# Altium schematic symbol library Microchip Power Management Switching Regulator.SchLib: 304 symbols (part 2 of 8)
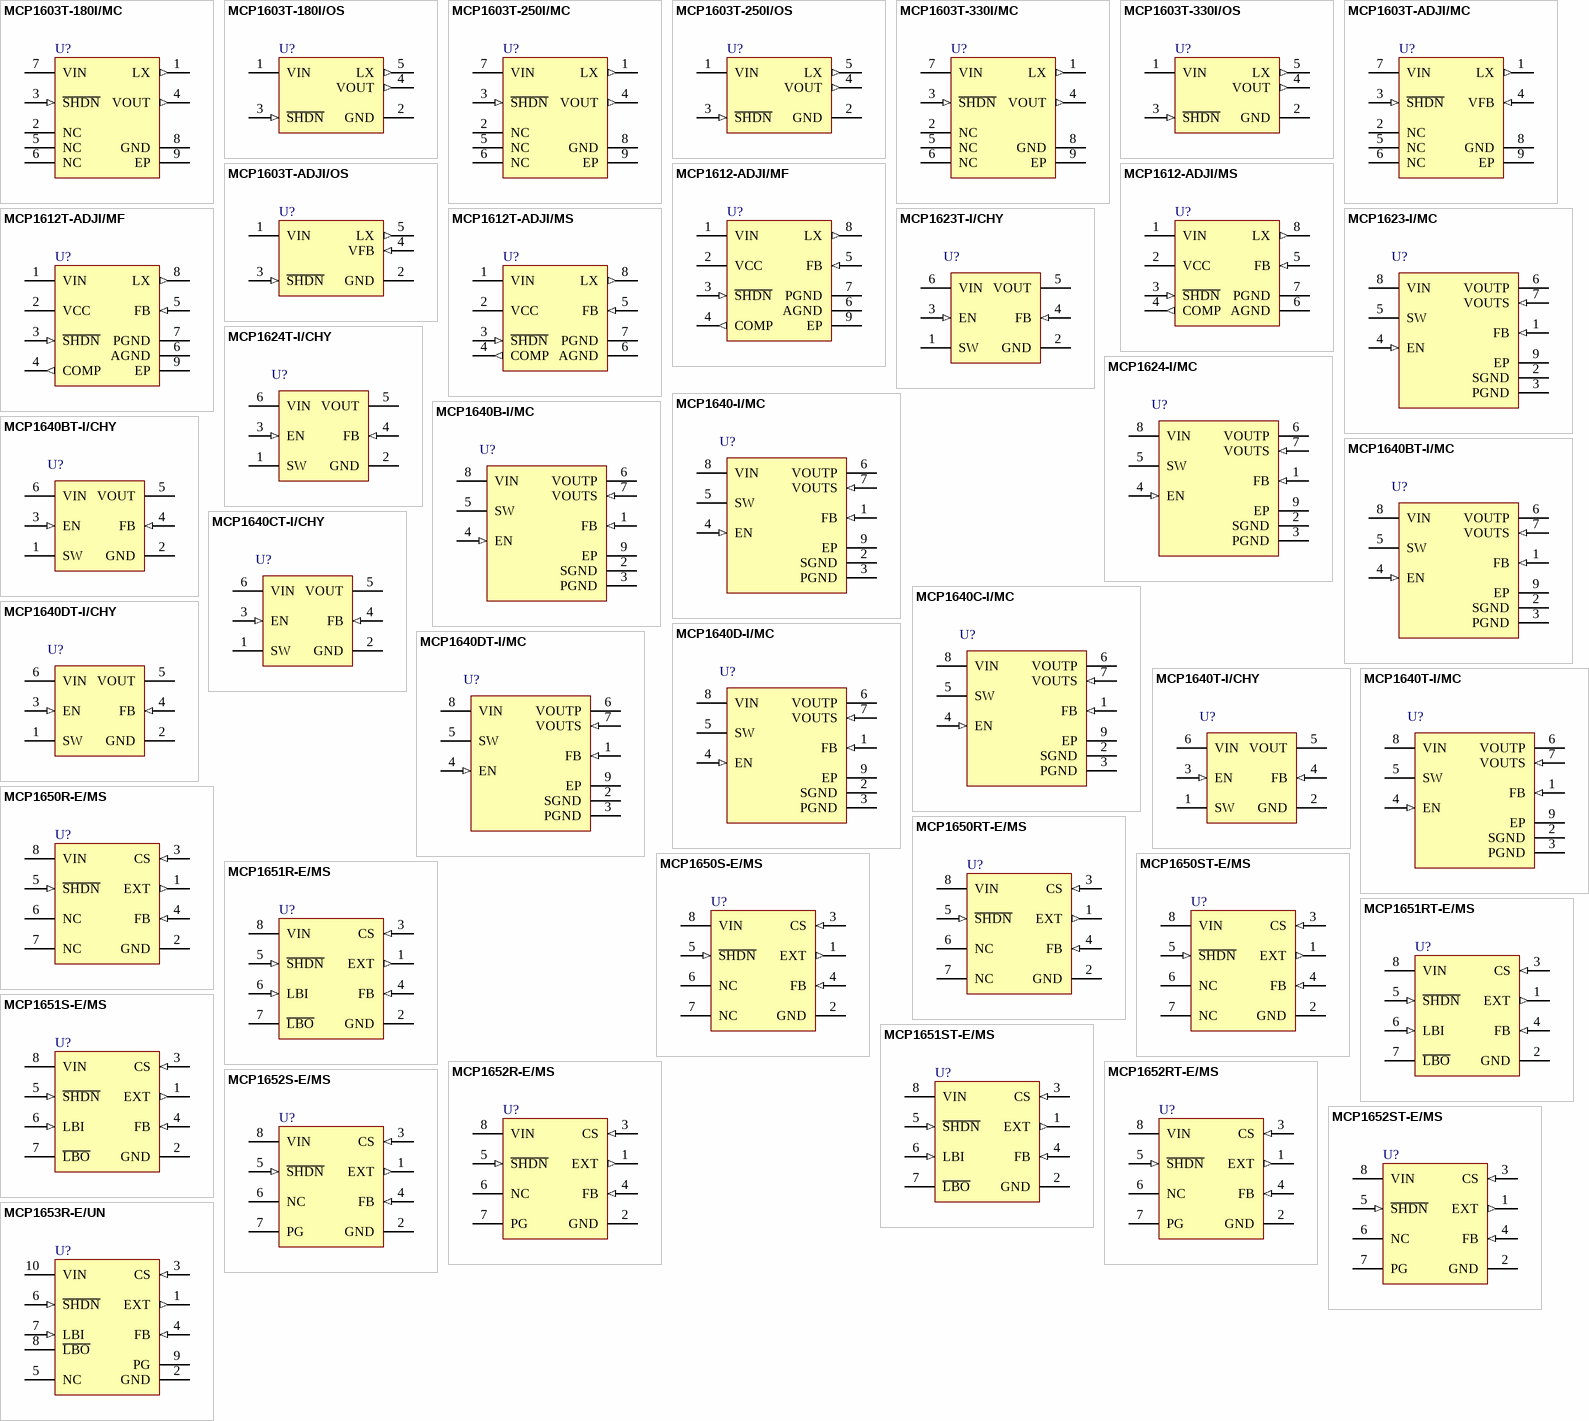
[diagram p8: symbols MCP1603T-180I/MC to MCP1653R-E/UN]

## MCP1603T-330I/MC
designator U?
500mA Synchronous Buck Regulator, 3.3V, 2.0 MHz, 8-Pin DFN, Industrial Temperature, Tape and Reel; Manufacturer: Microchip; PartNumber: MCP1603T-330I/MC; DatasheetVersion: revA, May-2007; PackageVersion: revBB, Aug-2009; PackageReference: DFN-MC8; PackageDescription: 8-Lead Plastic Dual Flat, No Lead Package (MC) - 2x3x0.9mm Body [DFN]; Supplier 1: Digi-Key; Supplier Part Number 1: MCP1603T-330I/MC-ND; Mounting Technology: Surface Mount; ComponentLink1Description: Manufacturer URL; ComponentLink1URL: http://www.microchip.com/; ComponentLink2Description: Datasheet; ComponentLink2URL: http://ww1.microchip.com/downloads/en/DeviceDoc/22042a.pdf; ComponentLink3Description: Package Specification; ComponentLink3URL: http://www.microchip.com/stellent/groups/techpub_sg/documents/packagingspec/en012702.pdf
footprint DFN-MC8 (SON, 8-Leads, Body 2x3mm, Pitch 0.5mm, Microchip Recommended)
pins: 1 LX (out), 2 NC, 3 ~{SHDN} (in), 4 VOUT (out), 5 NC, 6 NC, 7 VIN (power), 8 GND (power), 9 EP (power)

## MCP1603T-330I/OS
designator U?
500mA Synchronous Buck Regulator, 3.3V, 2.0 MHz, 5-Pin TSOT, Industrial Temperature, Tape and Reel; Manufacturer: Microchip; PartNumber: MCP1603T-330I/OS; DatasheetVersion: revA, May-2007; PackageVersion: revBB, Aug-2009; PackageReference: TSOT-OS5; PackageDescription: 5-Lead Plastic Small Outline Transistor (OS) [TSOT]; Supplier 1: Digi-Key; Supplier Part Number 1: MCP1603T-330I/OSTR-ND; Mounting Technology: Surface Mount; ComponentLink1Description: Manufacturer URL; ComponentLink1URL: http://www.microchip.com/; ComponentLink2Description: Datasheet; ComponentLink2URL: http://ww1.microchip.com/downloads/en/DeviceDoc/22042a.pdf; ComponentLink3Description: Package Specification; ComponentLink3URL: http://www.microchip.com/stellent/groups/techpub_sg/documents/packagingspec/en012702.pdf
footprint TSOT-OS5_N (SOT23, 5-Leads, Body 2.9x1.6mm, Pitch 0.95mm, Lead Span 2.8mm, IPC Medium Density)
footprint TSOT-OS5_L (SOT23, 5-Leads, Body 2.9x1.6mm, Pitch 0.95mm, Lead Span 2.8mm, IPC High Density)
footprint TSOT-OS5_M (SOT23, 5-Leads, Body 2.9x1.6mm, Pitch 0.95mm, Lead Span 2.8mm, IPC Low Density)
pins: 1 VIN (power), 2 GND (power), 3 ~{SHDN} (in), 4 VOUT (out), 5 LX (out)

## MCP1603T-ADJI/MC
designator U?
500mA Synchronous Buck Regulator, Adjustable Output, 2MHz, 8-Pin DFN, Industrial Temperature, Tape and Reel; Manufacturer: Microchip; PartNumber: MCP1603T-ADJI/MC; DatasheetVersion: revA, May-2007; PackageVersion: revBB, Aug-2009; PackageReference: DFN-MC8; PackageDescription: 8-Lead Plastic Dual Flat, No Lead Package (MC) - 2x3x0.9mm Body [DFN]; Mounting Technology: Surface Mount; ComponentLink1Description: Manufacturer URL; ComponentLink1URL: http://www.microchip.com/; ComponentLink2Description: Datasheet; ComponentLink2URL: http://ww1.microchip.com/downloads/en/DeviceDoc/22042a.pdf; ComponentLink3Description: Package Specification; ComponentLink3URL: http://www.microchip.com/stellent/groups/techpub_sg/documents/packagingspec/en012702.pdf
footprint DFN-MC8 (SON, 8-Leads, Body 2x3mm, Pitch 0.5mm, Microchip Recommended)
pins: 1 LX (out), 2 NC, 3 ~{SHDN} (in), 4 VFB (in), 5 NC, 6 NC, 7 VIN (power), 8 GND (power), 9 EP (power)

## MCP1603T-ADJI/OS
designator U?
500mA Synchronous Buck Regulator, Adjustable Output, 2MHz, 5-Pin TSOT, Industrial Temperature, Tape and Reel; Manufacturer: Microchip; PartNumber: MCP1603T-ADJI/OS; DatasheetVersion: revA, May-2007; PackageVersion: revBB, Aug-2009; PackageReference: TSOT-OS5; PackageDescription: 5-Lead Plastic Small Outline Transistor (OS) [TSOT]; Supplier 1: Digi-Key; Supplier Part Number 1: MCP1603T-ADJI/OSTR-ND; Mounting Technology: Surface Mount; ComponentLink1Description: Manufacturer URL; ComponentLink1URL: http://www.microchip.com/; ComponentLink2Description: Datasheet; ComponentLink2URL: http://ww1.microchip.com/downloads/en/DeviceDoc/22042a.pdf; ComponentLink3Description: Package Specification; ComponentLink3URL: http://www.microchip.com/stellent/groups/techpub_sg/documents/packagingspec/en012702.pdf
footprint TSOT-OS5_N (SOT23, 5-Leads, Body 2.9x1.6mm, Pitch 0.95mm, Lead Span 2.8mm, IPC Medium Density)
footprint TSOT-OS5_L (SOT23, 5-Leads, Body 2.9x1.6mm, Pitch 0.95mm, Lead Span 2.8mm, IPC High Density)
footprint TSOT-OS5_M (SOT23, 5-Leads, Body 2.9x1.6mm, Pitch 0.95mm, Lead Span 2.8mm, IPC Low Density)
pins: 1 VIN (power), 2 GND (power), 3 ~{SHDN} (in), 4 VFB (in), 5 LX (out)

## MCP1612-ADJI/MF
designator U?
Single 1A Synchronous Buck Regulator, 1.4MHz, 8-Pin DFN, Industrial Temperature; Manufacturer: Microchip; PartNumber: MCP1612-ADJI/MF; DatasheetVersion: revB, Sep-2005; PackageVersion: revBB, Aug-2009; PackageReference: DFN-MF8; PackageDescription: 8-Lead Plastic Dual Flat, No Lead Package (MF) - 3x3x0.9mm Body [DFN]; Supplier 1: Digi-Key; Supplier Part Number 1: MCP1612-ADJI/MF-ND; Mounting Technology: Surface Mount; ComponentLink1Description: Manufacturer URL; ComponentLink1URL: http://www.microchip.com/; ComponentLink2Description: Datasheet; ComponentLink2URL: http://ww1.microchip.com/downloads/en/DeviceDoc/21921b.pdf; ComponentLink3Description: Package Specification; ComponentLink3URL: http://www.microchip.com/stellent/groups/techpub_sg/documents/packagingspec/en012702.pdf
footprint DFN-MF8 (SON, 8-Leads, Body 3x3mm, Pitch 0.65mm, Microchip Recommended)
pins: 1 VIN (power), 2 VCC (power), 3 ~{SHDN} (in), 4 COMP (out), 5 FB (in), 6 AGND (power), 7 PGND (power), 8 LX (out), 9 EP (power)

## MCP1612-ADJI/MS
designator U?
Single 1A Synchronous Buck Regulator, 1.4MHz, 8-Pin MSOP, Industrial Temperature; Manufacturer: Microchip; PartNumber: MCP1612-ADJI/MS; DatasheetVersion: revB, Sep-2005; PackageVersion: revBB, Aug-2009; PackageReference: MSOP-MS8; PackageDescription: 8-Lead Plastic Micro Small Outline Package (MS) [MSOP]; Supplier 1: Digi-Key; Supplier Part Number 1: MCP1612-ADJI/MS-ND; Mounting Technology: Surface Mount; ComponentLink1Description: Manufacturer URL; ComponentLink1URL: http://www.microchip.com/; ComponentLink2Description: Datasheet; ComponentLink2URL: http://ww1.microchip.com/downloads/en/DeviceDoc/21921b.pdf; ComponentLink3Description: Package Specification; ComponentLink3URL: http://www.microchip.com/stellent/groups/techpub_sg/documents/packagingspec/en012702.pdf
footprint MSOP-MS8_N (TSOP, 8-Leads, Body 3x3mm, Pitch 0.65mm, IPC Medium Density)
footprint MSOP-MS8_L (TSOP, 8-Leads, Body 3x3mm, Pitch 0.65mm, IPC High Density)
footprint MSOP-MS8_M (TSOP, 8-Leads, Body 3x3mm, Pitch 0.65mm, IPC Low Density)
pins: 1 VIN (power), 2 VCC (power), 3 ~{SHDN} (in), 4 COMP (out), 5 FB (in), 6 AGND (power), 7 PGND (power), 8 LX (out)

## MCP1612T-ADJI/MF
designator U?
Single 1A Synchronous Buck Regulator, 1.4MHz, 8-Pin DFN, Industrial Temperature, Tape and Reel; Manufacturer: Microchip; PartNumber: MCP1612T-ADJI/MF; DatasheetVersion: revB, Sep-2005; PackageVersion: revBB, Aug-2009; PackageReference: DFN-MF8; PackageDescription: 8-Lead Plastic Dual Flat, No Lead Package (MF) - 3x3x0.9mm Body [DFN]; Supplier 1: Digi-Key; Supplier Part Number 1: MCP1612T-ADJI/MF-ND; Mounting Technology: Surface Mount; ComponentLink1Description: Manufacturer URL; ComponentLink1URL: http://www.microchip.com/; ComponentLink2Description: Datasheet; ComponentLink2URL: http://ww1.microchip.com/downloads/en/DeviceDoc/21921b.pdf; ComponentLink3Description: Package Specification; ComponentLink3URL: http://www.microchip.com/stellent/groups/techpub_sg/documents/packagingspec/en012702.pdf
footprint DFN-MF8 (SON, 8-Leads, Body 3x3mm, Pitch 0.65mm, Microchip Recommended)
pins: 1 VIN (power), 2 VCC (power), 3 ~{SHDN} (in), 4 COMP (out), 5 FB (in), 6 AGND (power), 7 PGND (power), 8 LX (out), 9 EP (power)

## MCP1612T-ADJI/MS
designator U?
Single 1A Synchronous Buck Regulator, 1.4MHz, 8-Pin MSOP, Industrial Temperature, Tape and Reel; Manufacturer: Microchip; PartNumber: MCP1612T-ADJI/MS; DatasheetVersion: revB, Sep-2005; PackageVersion: revBB, Aug-2009; PackageReference: MSOP-MS8; PackageDescription: 8-Lead Plastic Micro Small Outline Package (MS) [MSOP]; Supplier 1: Digi-Key; Supplier Part Number 1: MCP1612T-ADJI/MS-ND; Mounting Technology: Surface Mount; ComponentLink1Description: Manufacturer URL; ComponentLink1URL: http://www.microchip.com/; ComponentLink2Description: Datasheet; ComponentLink2URL: http://ww1.microchip.com/downloads/en/DeviceDoc/21921b.pdf; ComponentLink3Description: Package Specification; ComponentLink3URL: http://www.microchip.com/stellent/groups/techpub_sg/documents/packagingspec/en012702.pdf
footprint MSOP-MS8_N (TSOP, 8-Leads, Body 3x3mm, Pitch 0.65mm, IPC Medium Density)
footprint MSOP-MS8_L (TSOP, 8-Leads, Body 3x3mm, Pitch 0.65mm, IPC High Density)
footprint MSOP-MS8_M (TSOP, 8-Leads, Body 3x3mm, Pitch 0.65mm, IPC Low Density)
pins: 1 VIN (power), 2 VCC (power), 3 ~{SHDN} (in), 4 COMP (out), 5 FB (in), 6 AGND (power), 7 PGND (power), 8 LX (out)

## MCP1623-I/MC
designator U?
Low-Voltage Input Boost Regulator for PIC® Microcontrollers, 175 mA, Input Voltage 0.65 to 5.5 V, Output Voltage 2.0 to 5.5 V, -40 to 85 degC, 8-pin DFN (MC8), Tube; Manufacturer: Microchip; PartNumber: MCP1623-I/MC; DatasheetVersion: Rev. C; PackageVersion: C04-123C; PackageReference: DFN-MC8; PackageDescription: 8-Lead Plastic Dual Flat, 2 x 3 mm Body, 0.5 mm Pitch; Supplier 1: Digi-Key; Supplier Part Number 1: MCP1623-I/MC-ND; Mounting Technology: Surface Mount; ComponentLink1Description: Manufacturer URL; ComponentLink1URL: http://www.microchip.com; ComponentLink2Description: Datasheet; ComponentLink2URL: http://ww1.microchip.com/downloads/en/DeviceDoc/41420C.pdf; ComponentLink3Description: Package Specification; ComponentLink3URL: http://www.microchip.com/stellent/groups/techpub_sg/documents/packagingspec/en012702.pdf; ComponentLink4Description: Product URL; ComponentLink4URL: http://www.microchip.com/MCP1623
footprint MCHP-DFN-MC8_V (SON, 8-Leads, Body 3x2mm, Pitch 0.5mm, Thermal Pad 1.45x1.75mm)
pins: 1 FB (in) "Feedback Voltage Pin", 2 SGND (power) "Signal Ground Pin", 3 PGND (power) "Power Ground Pin", 4 EN (in) "Enable Control Input Pin", 5 SW (power) "Switch Node, Boost Inductor Input Pin", 6 VOUTP (power) "Output Voltage Power Pin", 7 VOUTS (in) "Output Voltage Sense Pin", 8 VIN (power) "Input Voltage Pin", 9 EP (power) "Exposed Thermal Pad (EP); must be connected to VSS"

## MCP1623T-I/CHY
designator U?
Low-Voltage Input Boost Regulator for PIC® Microcontrollers, 175 mA, Input Voltage 0.65 to 5.5 V, Output Voltage 2.0 to 5.5 V, -40 to 85 degC, 6-pin SOT-23 (CHY6), Tape and Reel; Manufacturer: Microchip; PartNumber: MCP1623T-I/CHY; DatasheetVersion: Rev. C; PackageVersion: C04-028B; PackageReference: SOT-23-CHY6; PackageDescription: 6-Lead Plastic Small Outline Transistor, 2.9 x 1.55 mm Body, 0.95 mm Pitch; Supplier 1: Digi-Key; Supplier Part Number 1: MCP1623T-I/CHYTR-ND; Mounting Technology: Surface Mount; ComponentLink1Description: Manufacturer URL; ComponentLink1URL: http://www.microchip.com; ComponentLink2Description: Datasheet; ComponentLink2URL: http://ww1.microchip.com/downloads/en/DeviceDoc/41420C.pdf; ComponentLink3Description: Package Specification; ComponentLink3URL: http://www.microchip.com/stellent/groups/techpub_sg/documents/packagingspec/en012702.pdf; ComponentLink4Description: Product URL; ComponentLink4URL: http://www.microchip.com/MCP1623
footprint MCHP-SOT-23-CHY6_N (SOT23, 6-Leads, Body 2.9x1.55mm, Pitch 0.95mm, IPC Medium Density)
footprint MCHP-SOT-23-CHY6_L (SOT23, 6-Leads, Body 2.9x1.55mm, Pitch 0.95mm, IPC High Density)
footprint MCHP-SOT-23-CHY6_M (SOT23, 6-Leads, Body 2.9x1.55mm, Pitch 0.95mm, IPC Low Density)
pins: 1 SW (power) "Switch Node, Boost Inductor Input Pin", 2 GND (power) "Ground Pin", 3 EN (in) "Enable Control Input Pin", 4 FB (in) "Feedback Voltage Pin", 5 VOUT (power) "Output Voltage Pin", 6 VIN (power) "Input Voltage Pin"

## MCP1624-I/MC
designator U?
Low-Voltage Input Boost Regulator for PIC® Microcontrollers, 175 mA, Input Voltage 0.65 to 5.5 V, Output Voltage 2.0 to 5.5 V, -40 to 85 degC, 8-pin DFN (MC8), Tube; Manufacturer: Microchip; PartNumber: MCP1624-I/MC; DatasheetVersion: Rev. C; PackageVersion: C04-123C; PackageReference: DFN-MC8; PackageDescription: 8-Lead Plastic Dual Flat, 2 x 3 mm Body, 0.5 mm Pitch; Supplier 1: Digi-Key; Supplier Part Number 1: MCP1624-I/MC-ND; Mounting Technology: Surface Mount; ComponentLink1Description: Manufacturer URL; ComponentLink1URL: http://www.microchip.com; ComponentLink2Description: Datasheet; ComponentLink2URL: http://ww1.microchip.com/downloads/en/DeviceDoc/41420C.pdf; ComponentLink3Description: Package Specification; ComponentLink3URL: http://www.microchip.com/stellent/groups/techpub_sg/documents/packagingspec/en012702.pdf; ComponentLink4Description: Product URL; ComponentLink4URL: http://www.microchip.com/MCP1624
footprint MCHP-DFN-MC8_V (SON, 8-Leads, Body 3x2mm, Pitch 0.5mm, Thermal Pad 1.45x1.75mm)
pins: 1 FB (in) "Feedback Voltage Pin", 2 SGND (power) "Signal Ground Pin", 3 PGND (power) "Power Ground Pin", 4 EN (in) "Enable Control Input Pin", 5 SW (power) "Switch Node, Boost Inductor Input Pin", 6 VOUTP (power) "Output Voltage Power Pin", 7 VOUTS (in) "Output Voltage Sense Pin", 8 VIN (power) "Input Voltage Pin", 9 EP (power) "Exposed Thermal Pad (EP); must be connected to VSS"

## MCP1624T-I/CHY
designator U?
Low-Voltage Input Boost Regulator for PIC® Microcontrollers, 175 mA, Input Voltage 0.65 to 5.5 V, Output Voltage 2.0 to 5.5 V, -40 to 85 degC, 6-pin SOT-23 (CHY6), Tape and Reel; Manufacturer: Microchip; PartNumber: MCP1624T-I/CHY; DatasheetVersion: Rev. C; PackageVersion: C04-028B; PackageReference: SOT-23-CHY6; PackageDescription: 6-Lead Plastic Small Outline Transistor, 2.9 x 1.55 mm Body, 0.95 mm Pitch; Supplier 1: Digi-Key; Supplier Part Number 1: MCP1624T-I/CHYTR-ND; Mounting Technology: Surface Mount; ComponentLink1Description: Manufacturer URL; ComponentLink1URL: http://www.microchip.com; ComponentLink2Description: Datasheet; ComponentLink2URL: http://ww1.microchip.com/downloads/en/DeviceDoc/41420C.pdf; ComponentLink3Description: Package Specification; ComponentLink3URL: http://www.microchip.com/stellent/groups/techpub_sg/documents/packagingspec/en012702.pdf; ComponentLink4Description: Product URL; ComponentLink4URL: http://www.microchip.com/MCP1624
footprint MCHP-SOT-23-CHY6_N (SOT23, 6-Leads, Body 2.9x1.55mm, Pitch 0.95mm, IPC Medium Density)
footprint MCHP-SOT-23-CHY6_L (SOT23, 6-Leads, Body 2.9x1.55mm, Pitch 0.95mm, IPC High Density)
footprint MCHP-SOT-23-CHY6_M (SOT23, 6-Leads, Body 2.9x1.55mm, Pitch 0.95mm, IPC Low Density)
pins: 1 SW (power) "Switch Node, Boost Inductor Input Pin", 2 GND (power) "Ground Pin", 3 EN (in) "Enable Control Input Pin", 4 FB (in) "Feedback Voltage Pin", 5 VOUT (power) "Output Voltage Pin", 6 VIN (power) "Input Voltage Pin"

## MCP1640-I/MC
designator U?
Start-up Synchronous Boost Regulator with True Output Disconnect or Input / Output Bypass Option, 350 mA, Input Voltage 0.65 to 5.5 V, Output Voltage 2.0 to 5.5 V, -40 to 85 degC, 8-pin DFN (MC8), Tube; Manufacturer: Microchip; PartNumber: MCP1640-I/MC; DatasheetVersion: Rev. B; PackageVersion: C04-123C; PackageReference: DFN-MC8; PackageDescription: 8-Lead Plastic Dual Flat, 2 x 3 mm Body, 0.5 mm Pitch; Supplier 1: Digi-Key; Supplier Part Number 1: MCP1640-I/MC-ND; Mounting Technology: Surface Mount; ComponentLink1Description: Manufacturer URL; ComponentLink1URL: http://www.microchip.com; ComponentLink2Description: Datasheet; ComponentLink2URL: http://ww1.microchip.com/downloads/en/DeviceDoc/22234B.pdf; ComponentLink3Description: Package Specification; ComponentLink3URL: http://www.microchip.com/stellent/groups/techpub_sg/documents/packagingspec/en012702.pdf; ComponentLink4Description: Product URL; ComponentLink4URL: http://www.microchip.com/MCP1640
footprint MCHP-DFN-MC8_V (SON, 8-Leads, Body 3x2mm, Pitch 0.5mm, Thermal Pad 1.45x1.75mm)
pins: 1 FB (in) "Feedback Voltage Pin", 2 SGND (power) "Signal Ground Pin", 3 PGND (power) "Power Ground Pin", 4 EN (in) "Enable Control Input Pin", 5 SW (power) "Switch Node, Boost Inductor Input Pin", 6 VOUTP (power) "Output Voltage Power Pin", 7 VOUTS (in) "Output Voltage Sense Pin", 8 VIN (power) "Input Voltage Pin", 9 EP (power) "Exposed Thermal Pad (EP); must be connected to VSS"

## MCP1640B-I/MC
designator U?
Start-up Synchronous Boost Regulator with True Output Disconnect or Input / Output Bypass Option, 350 mA, Input Voltage 0.65 to 5.5 V, Output Voltage 2.0 to 5.5 V, -40 to 85 degC, 8-pin DFN (MC8), Tube; Manufacturer: Microchip; PartNumber: MCP1640B-I/MC; DatasheetVersion: Rev. B; PackageVersion: C04-123C; PackageReference: DFN-MC8; PackageDescription: 8-Lead Plastic Dual Flat, 2 x 3 mm Body, 0.5 mm Pitch; Supplier 1: Digi-Key; Supplier Part Number 1: MCP1640B-I/MC-ND; Mounting Technology: Surface Mount; ComponentLink1Description: Manufacturer URL; ComponentLink1URL: http://www.microchip.com; ComponentLink2Description: Datasheet; ComponentLink2URL: http://ww1.microchip.com/downloads/en/DeviceDoc/22234B.pdf; ComponentLink3Description: Package Specification; ComponentLink3URL: http://www.microchip.com/stellent/groups/techpub_sg/documents/packagingspec/en012702.pdf; ComponentLink4Description: Product URL; ComponentLink4URL: http://www.microchip.com/MCP1640
footprint MCHP-DFN-MC8_V (SON, 8-Leads, Body 3x2mm, Pitch 0.5mm, Thermal Pad 1.45x1.75mm)
pins: 1 FB (in) "Feedback Voltage Pin", 2 SGND (power) "Signal Ground Pin", 3 PGND (power) "Power Ground Pin", 4 EN (in) "Enable Control Input Pin", 5 SW (power) "Switch Node, Boost Inductor Input Pin", 6 VOUTP (power) "Output Voltage Power Pin", 7 VOUTS (in) "Output Voltage Sense Pin", 8 VIN (power) "Input Voltage Pin", 9 EP (power) "Exposed Thermal Pad (EP); must be connected to VSS"

## MCP1640BT-I/CHY
designator U?
Start-up Synchronous Boost Regulator with True Output Disconnect or Input / Output Bypass Option, 350 mA, Input Voltage 0.65 to 5.5 V, Output Voltage 2.0 to 5.5 V, -40 to 85 degC, 6-pin SOT-23 (CHY6), Tape and Reel; Manufacturer: Microchip; PartNumber: MCP1640BT-I/CHY; DatasheetVersion: Rev. B; PackageVersion: C04-028B; PackageReference: SOT-23-CHY6; PackageDescription: 6-Lead Plastic Small Outline Transistor, 2.9 x 1.55 mm Body, 0.95 mm Pitch; Supplier 1: Digi-Key; Supplier Part Number 1: MCP1640BT-I/CHYTR-ND; Mounting Technology: Surface Mount; ComponentLink1Description: Manufacturer URL; ComponentLink1URL: http://www.microchip.com; ComponentLink2Description: Datasheet; ComponentLink2URL: http://ww1.microchip.com/downloads/en/DeviceDoc/22234B.pdf; ComponentLink3Description: Package Specification; ComponentLink3URL: http://www.microchip.com/stellent/groups/techpub_sg/documents/packagingspec/en012702.pdf; ComponentLink4Description: Product URL; ComponentLink4URL: http://www.microchip.com/MCP1640
footprint MCHP-SOT-23-CHY6_N (SOT23, 6-Leads, Body 2.9x1.55mm, Pitch 0.95mm, IPC Medium Density)
footprint MCHP-SOT-23-CHY6_L (SOT23, 6-Leads, Body 2.9x1.55mm, Pitch 0.95mm, IPC High Density)
footprint MCHP-SOT-23-CHY6_M (SOT23, 6-Leads, Body 2.9x1.55mm, Pitch 0.95mm, IPC Low Density)
pins: 1 SW (power) "Switch Node, Boost Inductor Input Pin", 2 GND (power) "Ground Pin", 3 EN (in) "Enable Control Input Pin", 4 FB (in) "Feedback Voltage Pin", 5 VOUT (power) "Output Voltage Pin", 6 VIN (power) "Input Voltage Pin"

## MCP1640BT-I/MC
designator U?
Start-up Synchronous Boost Regulator with True Output Disconnect or Input / Output Bypass Option, 350 mA, Input Voltage 0.65 to 5.5 V, Output Voltage 2.0 to 5.5 V, -40 to 85 degC, 8-pin DFN (MC8), Tape and Reel; Manufacturer: Microchip; PartNumber: MCP1640BT-I/MC; DatasheetVersion: Rev. B; PackageVersion: C04-123C; PackageReference: DFN-MC8; PackageDescription: 8-Lead Plastic Dual Flat, 2 x 3 mm Body, 0.5 mm Pitch; Supplier 1: Digi-Key; Supplier Part Number 1: MCP1640BT-I/MC-ND; Mounting Technology: Surface Mount; ComponentLink1Description: Manufacturer URL; ComponentLink1URL: http://www.microchip.com; ComponentLink2Description: Datasheet; ComponentLink2URL: http://ww1.microchip.com/downloads/en/DeviceDoc/22234B.pdf; ComponentLink3Description: Package Specification; ComponentLink3URL: http://www.microchip.com/stellent/groups/techpub_sg/documents/packagingspec/en012702.pdf; ComponentLink4Description: Product URL; ComponentLink4URL: http://www.microchip.com/MCP1640
footprint MCHP-DFN-MC8_V (SON, 8-Leads, Body 3x2mm, Pitch 0.5mm, Thermal Pad 1.45x1.75mm)
pins: 1 FB (in) "Feedback Voltage Pin", 2 SGND (power) "Signal Ground Pin", 3 PGND (power) "Power Ground Pin", 4 EN (in) "Enable Control Input Pin", 5 SW (power) "Switch Node, Boost Inductor Input Pin", 6 VOUTP (power) "Output Voltage Power Pin", 7 VOUTS (in) "Output Voltage Sense Pin", 8 VIN (power) "Input Voltage Pin", 9 EP (power) "Exposed Thermal Pad (EP); must be connected to VSS"

## MCP1640C-I/MC
designator U?
Start-up Synchronous Boost Regulator with True Output Disconnect or Input / Output Bypass Option, 350 mA, Input Voltage 0.65 to 5.5 V, Output Voltage 2.0 to 5.5 V, -40 to 85 degC, 8-pin DFN (MC8), Tube; Manufacturer: Microchip; PartNumber: MCP1640C-I/MC; DatasheetVersion: Rev. B; PackageVersion: C04-123C; PackageReference: DFN-MC8; PackageDescription: 8-Lead Plastic Dual Flat, 2 x 3 mm Body, 0.5 mm Pitch; Supplier 1: Digi-Key; Supplier Part Number 1: MCP1640C-I/MC-ND; Mounting Technology: Surface Mount; ComponentLink1Description: Manufacturer URL; ComponentLink1URL: http://www.microchip.com; ComponentLink2Description: Datasheet; ComponentLink2URL: http://ww1.microchip.com/downloads/en/DeviceDoc/22234B.pdf; ComponentLink3Description: Package Specification; ComponentLink3URL: http://www.microchip.com/stellent/groups/techpub_sg/documents/packagingspec/en012702.pdf; ComponentLink4Description: Product URL; ComponentLink4URL: http://www.microchip.com/MCP1640
footprint MCHP-DFN-MC8_V (SON, 8-Leads, Body 3x2mm, Pitch 0.5mm, Thermal Pad 1.45x1.75mm)
pins: 1 FB (in) "Feedback Voltage Pin", 2 SGND (power) "Signal Ground Pin", 3 PGND (power) "Power Ground Pin", 4 EN (in) "Enable Control Input Pin", 5 SW (power) "Switch Node, Boost Inductor Input Pin", 6 VOUTP (power) "Output Voltage Power Pin", 7 VOUTS (in) "Output Voltage Sense Pin", 8 VIN (power) "Input Voltage Pin", 9 EP (power) "Exposed Thermal Pad (EP); must be connected to VSS"

## MCP1640CT-I/CHY
designator U?
Start-up Synchronous Boost Regulator with True Output Disconnect or Input / Output Bypass Option, 350 mA, Input Voltage 0.65 to 5.5 V, Output Voltage 2.0 to 5.5 V, -40 to 85 degC, 6-pin SOT-23 (CHY6), Tape and Reel; Manufacturer: Microchip; PartNumber: MCP1640CT-I/CHY; DatasheetVersion: Rev. B; PackageVersion: C04-028B; PackageReference: SOT-23-CHY6; PackageDescription: 6-Lead Plastic Small Outline Transistor, 2.9 x 1.55 mm Body, 0.95 mm Pitch; Supplier 1: Digi-Key; Supplier Part Number 1: MCP1640CT-I/CHYTR-ND; Mounting Technology: Surface Mount; ComponentLink1Description: Manufacturer URL; ComponentLink1URL: http://www.microchip.com; ComponentLink2Description: Datasheet; ComponentLink2URL: http://ww1.microchip.com/downloads/en/DeviceDoc/22234B.pdf; ComponentLink3Description: Package Specification; ComponentLink3URL: http://www.microchip.com/stellent/groups/techpub_sg/documents/packagingspec/en012702.pdf; ComponentLink4Description: Product URL; ComponentLink4URL: http://www.microchip.com/MCP1640
footprint MCHP-SOT-23-CHY6_N (SOT23, 6-Leads, Body 2.9x1.55mm, Pitch 0.95mm, IPC Medium Density)
footprint MCHP-SOT-23-CHY6_L (SOT23, 6-Leads, Body 2.9x1.55mm, Pitch 0.95mm, IPC High Density)
footprint MCHP-SOT-23-CHY6_M (SOT23, 6-Leads, Body 2.9x1.55mm, Pitch 0.95mm, IPC Low Density)
pins: 1 SW (power) "Switch Node, Boost Inductor Input Pin", 2 GND (power) "Ground Pin", 3 EN (in) "Enable Control Input Pin", 4 FB (in) "Feedback Voltage Pin", 5 VOUT (power) "Output Voltage Pin", 6 VIN (power) "Input Voltage Pin"

## MCP1640D-I/MC
designator U?
Start-up Synchronous Boost Regulator with True Output Disconnect or Input / Output Bypass Option, 350 mA, Input Voltage 0.65 to 5.5 V, Output Voltage 2.0 to 5.5 V, -40 to 85 degC, 8-pin DFN (MC8), Tube; Manufacturer: Microchip; PartNumber: MCP1640D-I/MC; DatasheetVersion: Rev. B; PackageVersion: C04-123C; PackageReference: DFN-MC8; PackageDescription: 8-Lead Plastic Dual Flat, 2 x 3 mm Body, 0.5 mm Pitch; Supplier 1: Digi-Key; Supplier Part Number 1: MCP1640D-I/MC-ND; Mounting Technology: Surface Mount; ComponentLink1Description: Manufacturer URL; ComponentLink1URL: http://www.microchip.com; ComponentLink2Description: Datasheet; ComponentLink2URL: http://ww1.microchip.com/downloads/en/DeviceDoc/22234B.pdf; ComponentLink3Description: Package Specification; ComponentLink3URL: http://www.microchip.com/stellent/groups/techpub_sg/documents/packagingspec/en012702.pdf; ComponentLink4Description: Product URL; ComponentLink4URL: http://www.microchip.com/MCP1640
footprint MCHP-DFN-MC8_V (SON, 8-Leads, Body 3x2mm, Pitch 0.5mm, Thermal Pad 1.45x1.75mm)
pins: 1 FB (in) "Feedback Voltage Pin", 2 SGND (power) "Signal Ground Pin", 3 PGND (power) "Power Ground Pin", 4 EN (in) "Enable Control Input Pin", 5 SW (power) "Switch Node, Boost Inductor Input Pin", 6 VOUTP (power) "Output Voltage Power Pin", 7 VOUTS (in) "Output Voltage Sense Pin", 8 VIN (power) "Input Voltage Pin", 9 EP (power) "Exposed Thermal Pad (EP); must be connected to VSS"

## MCP1640DT-I/CHY
designator U?
Start-up Synchronous Boost Regulator with True Output Disconnect or Input / Output Bypass Option, 350 mA, Input Voltage 0.65 to 5.5 V, Output Voltage 2.0 to 5.5 V, -40 to 85 degC, 6-pin SOT-23 (CHY6), Tape and Reel; Manufacturer: Microchip; PartNumber: MCP1640DT-I/CHY; DatasheetVersion: Rev. B; PackageVersion: C04-028B; PackageReference: SOT-23-CHY6; PackageDescription: 6-Lead Plastic Small Outline Transistor, 2.9 x 1.55 mm Body, 0.95 mm Pitch; Supplier 1: Digi-Key; Supplier Part Number 1: MCP1640DT-I/CHYTR-ND; Mounting Technology: Surface Mount; ComponentLink1Description: Manufacturer URL; ComponentLink1URL: http://www.microchip.com; ComponentLink2Description: Datasheet; ComponentLink2URL: http://ww1.microchip.com/downloads/en/DeviceDoc/22234B.pdf; ComponentLink3Description: Package Specification; ComponentLink3URL: http://www.microchip.com/stellent/groups/techpub_sg/documents/packagingspec/en012702.pdf; ComponentLink4Description: Product URL; ComponentLink4URL: http://www.microchip.com/MCP1640
footprint MCHP-SOT-23-CHY6_N (SOT23, 6-Leads, Body 2.9x1.55mm, Pitch 0.95mm, IPC Medium Density)
footprint MCHP-SOT-23-CHY6_L (SOT23, 6-Leads, Body 2.9x1.55mm, Pitch 0.95mm, IPC High Density)
footprint MCHP-SOT-23-CHY6_M (SOT23, 6-Leads, Body 2.9x1.55mm, Pitch 0.95mm, IPC Low Density)
pins: 1 SW (power) "Switch Node, Boost Inductor Input Pin", 2 GND (power) "Ground Pin", 3 EN (in) "Enable Control Input Pin", 4 FB (in) "Feedback Voltage Pin", 5 VOUT (power) "Output Voltage Pin", 6 VIN (power) "Input Voltage Pin"

## MCP1640DT-I/MC
designator U?
Start-up Synchronous Boost Regulator with True Output Disconnect or Input / Output Bypass Option, 350 mA, Input Voltage 0.65 to 5.5 V, Output Voltage 2.0 to 5.5 V, -40 to 85 degC, 8-pin DFN (MC8), Tape and Reel; Manufacturer: Microchip; PartNumber: MCP1640DT-I/MC; DatasheetVersion: Rev. B; PackageVersion: C04-123C; PackageReference: DFN-MC8; PackageDescription: 8-Lead Plastic Dual Flat, 2 x 3 mm Body, 0.5 mm Pitch; Supplier 1: Digi-Key; Supplier Part Number 1: MCP1640DT-I/MC-ND; Mounting Technology: Surface Mount; ComponentLink1Description: Manufacturer URL; ComponentLink1URL: http://www.microchip.com; ComponentLink2Description: Datasheet; ComponentLink2URL: http://ww1.microchip.com/downloads/en/DeviceDoc/22234B.pdf; ComponentLink3Description: Package Specification; ComponentLink3URL: http://www.microchip.com/stellent/groups/techpub_sg/documents/packagingspec/en012702.pdf; ComponentLink4Description: Product URL; ComponentLink4URL: http://www.microchip.com/MCP1640
footprint MCHP-DFN-MC8_V (SON, 8-Leads, Body 3x2mm, Pitch 0.5mm, Thermal Pad 1.45x1.75mm)
pins: 1 FB (in) "Feedback Voltage Pin", 2 SGND (power) "Signal Ground Pin", 3 PGND (power) "Power Ground Pin", 4 EN (in) "Enable Control Input Pin", 5 SW (power) "Switch Node, Boost Inductor Input Pin", 6 VOUTP (power) "Output Voltage Power Pin", 7 VOUTS (in) "Output Voltage Sense Pin", 8 VIN (power) "Input Voltage Pin", 9 EP (power) "Exposed Thermal Pad (EP); must be connected to VSS"

## MCP1640T-I/CHY
designator U?
Start-up Synchronous Boost Regulator with True Output Disconnect or Input / Output Bypass Option, 350 mA, Input Voltage 0.65 to 5.5 V, Output Voltage 2.0 to 5.5 V, -40 to 85 degC, 6-pin SOT-23 (CHY6), Tape and Reel; Manufacturer: Microchip; PartNumber: MCP1640T-I/CHY; DatasheetVersion: Rev. B; PackageVersion: C04-028B; PackageReference: SOT-23-CHY6; PackageDescription: 6-Lead Plastic Small Outline Transistor, 2.9 x 1.55 mm Body, 0.95 mm Pitch; Supplier 1: Digi-Key; Supplier Part Number 1: MCP1640T-I/CHYTR-ND; Mounting Technology: Surface Mount; ComponentLink1Description: Manufacturer URL; ComponentLink1URL: http://www.microchip.com; ComponentLink2Description: Datasheet; ComponentLink2URL: http://ww1.microchip.com/downloads/en/DeviceDoc/22234B.pdf; ComponentLink3Description: Package Specification; ComponentLink3URL: http://www.microchip.com/stellent/groups/techpub_sg/documents/packagingspec/en012702.pdf; ComponentLink4Description: Product URL; ComponentLink4URL: http://www.microchip.com/MCP1640
footprint MCHP-SOT-23-CHY6_N (SOT23, 6-Leads, Body 2.9x1.55mm, Pitch 0.95mm, IPC Medium Density)
footprint MCHP-SOT-23-CHY6_L (SOT23, 6-Leads, Body 2.9x1.55mm, Pitch 0.95mm, IPC High Density)
footprint MCHP-SOT-23-CHY6_M (SOT23, 6-Leads, Body 2.9x1.55mm, Pitch 0.95mm, IPC Low Density)
pins: 1 SW (power) "Switch Node, Boost Inductor Input Pin", 2 GND (power) "Ground Pin", 3 EN (in) "Enable Control Input Pin", 4 FB (in) "Feedback Voltage Pin", 5 VOUT (power) "Output Voltage Pin", 6 VIN (power) "Input Voltage Pin"

## MCP1640T-I/MC
designator U?
Start-up Synchronous Boost Regulator with True Output Disconnect or Input / Output Bypass Option, 350 mA, Input Voltage 0.65 to 5.5 V, Output Voltage 2.0 to 5.5 V, -40 to 85 degC, 8-pin DFN (MC8), Tape and Reel; Manufacturer: Microchip; PartNumber: MCP1640T-I/MC; DatasheetVersion: Rev. B; PackageVersion: C04-123C; PackageReference: DFN-MC8; PackageDescription: 8-Lead Plastic Dual Flat, 2 x 3 mm Body, 0.5 mm Pitch; Supplier 1: Digi-Key; Supplier Part Number 1: MCP1640T-I/MC-ND; Mounting Technology: Surface Mount; ComponentLink1Description: Manufacturer URL; ComponentLink1URL: http://www.microchip.com; ComponentLink2Description: Datasheet; ComponentLink2URL: http://ww1.microchip.com/downloads/en/DeviceDoc/22234B.pdf; ComponentLink3Description: Package Specification; ComponentLink3URL: http://www.microchip.com/stellent/groups/techpub_sg/documents/packagingspec/en012702.pdf; ComponentLink4Description: Product URL; ComponentLink4URL: http://www.microchip.com/MCP1640
footprint MCHP-DFN-MC8_V (SON, 8-Leads, Body 3x2mm, Pitch 0.5mm, Thermal Pad 1.45x1.75mm)
pins: 1 FB (in) "Feedback Voltage Pin", 2 SGND (power) "Signal Ground Pin", 3 PGND (power) "Power Ground Pin", 4 EN (in) "Enable Control Input Pin", 5 SW (power) "Switch Node, Boost Inductor Input Pin", 6 VOUTP (power) "Output Voltage Power Pin", 7 VOUTS (in) "Output Voltage Sense Pin", 8 VIN (power) "Input Voltage Pin", 9 EP (power) "Exposed Thermal Pad (EP); must be connected to VSS"

## MCP1650R-E/MS
designator U?
750 kHz Boost Controller, 2.0V, 8-Pin MSOP, Extended Temperature; Manufacturer: Microchip; PartNumber: MCP1650R-E/MS; DatasheetVersion: revA, Mar-2004; PackageVersion: revBB, Aug-2009; PackageReference: MSOP-MS8; PackageDescription: 8-Lead Plastic Micro Small Outline Package (MS) [MSOP]; Supplier 1: Digi-Key; Supplier Part Number 1: MCP1650R-E/MS-ND; Mounting Technology: Surface Mount; ComponentLink1Description: Manufacturer URL; ComponentLink1URL: http://www.microchip.com/; ComponentLink2Description: Datasheet; ComponentLink2URL: http://ww1.microchip.com/downloads/en/DeviceDoc/21876a.pdf; ComponentLink3Description: Package Specification; ComponentLink3URL: http://www.microchip.com/stellent/groups/techpub_sg/documents/packagingspec/en012702.pdf
footprint MSOP-MS8_N (TSOP, 8-Leads, Body 3x3mm, Pitch 0.65mm, IPC Medium Density)
footprint MSOP-MS8_L (TSOP, 8-Leads, Body 3x3mm, Pitch 0.65mm, IPC High Density)
footprint MSOP-MS8_M (TSOP, 8-Leads, Body 3x3mm, Pitch 0.65mm, IPC Low Density)
pins: 1 EXT (out), 2 GND (power), 3 CS (in), 4 FB (in), 5 ~{SHDN} (in), 6 NC, 7 NC, 8 VIN (power)

## MCP1650RT-E/MS
designator U?
750 kHz Boost Controller, 2.0V, 8-Pin MSOP, Extended Temperature, Tape and Reel; Manufacturer: Microchip; PartNumber: MCP1650RT-E/MS; DatasheetVersion: revA, Mar-2004; PackageVersion: revBB, Aug-2009; PackageReference: MSOP-MS8; PackageDescription: 8-Lead Plastic Micro Small Outline Package (MS) [MSOP]; Supplier 1: Digi-Key; Supplier Part Number 1: MCP1650RT-E/MS-ND; Mounting Technology: Surface Mount; ComponentLink1Description: Manufacturer URL; ComponentLink1URL: http://www.microchip.com/; ComponentLink2Description: Datasheet; ComponentLink2URL: http://ww1.microchip.com/downloads/en/DeviceDoc/21876a.pdf; ComponentLink3Description: Package Specification; ComponentLink3URL: http://www.microchip.com/stellent/groups/techpub_sg/documents/packagingspec/en012702.pdf
footprint MSOP-MS8_N (TSOP, 8-Leads, Body 3x3mm, Pitch 0.65mm, IPC Medium Density)
footprint MSOP-MS8_L (TSOP, 8-Leads, Body 3x3mm, Pitch 0.65mm, IPC High Density)
footprint MSOP-MS8_M (TSOP, 8-Leads, Body 3x3mm, Pitch 0.65mm, IPC Low Density)
pins: 1 EXT (out), 2 GND (power), 3 CS (in), 4 FB (in), 5 ~{SHDN} (in), 6 NC, 7 NC, 8 VIN (power)

## MCP1650S-E/MS
designator U?
750 kHz Boost Controller, 2.55V, 8-Pin MSOP, Extended Temperature; Manufacturer: Microchip; PartNumber: MCP1650S-E/MS; DatasheetVersion: revA, Mar-2004; PackageVersion: revBB, Aug-2009; PackageReference: MSOP-MS8; PackageDescription: 8-Lead Plastic Micro Small Outline Package (MS) [MSOP]; Supplier 1: Digi-Key; Supplier Part Number 1: MCP1650S-E/MS-ND; Mounting Technology: Surface Mount; ComponentLink1Description: Manufacturer URL; ComponentLink1URL: http://www.microchip.com/; ComponentLink2Description: Datasheet; ComponentLink2URL: http://ww1.microchip.com/downloads/en/DeviceDoc/21876a.pdf; ComponentLink3Description: Package Specification; ComponentLink3URL: http://www.microchip.com/stellent/groups/techpub_sg/documents/packagingspec/en012702.pdf
footprint MSOP-MS8_N (TSOP, 8-Leads, Body 3x3mm, Pitch 0.65mm, IPC Medium Density)
footprint MSOP-MS8_L (TSOP, 8-Leads, Body 3x3mm, Pitch 0.65mm, IPC High Density)
footprint MSOP-MS8_M (TSOP, 8-Leads, Body 3x3mm, Pitch 0.65mm, IPC Low Density)
pins: 1 EXT (out), 2 GND (power), 3 CS (in), 4 FB (in), 5 ~{SHDN} (in), 6 NC, 7 NC, 8 VIN (power)

## MCP1650ST-E/MS
designator U?
750 kHz Boost Controller, 2.55V, 8-Pin MSOP, Extended Temperature, Tape and Reel; Manufacturer: Microchip; PartNumber: MCP1650ST-E/MS; DatasheetVersion: revA, Mar-2004; PackageVersion: revBB, Aug-2009; PackageReference: MSOP-MS8; PackageDescription: 8-Lead Plastic Micro Small Outline Package (MS) [MSOP]; Supplier 1: Digi-Key; Supplier Part Number 1: MCP1650ST-E/MS-ND; Mounting Technology: Surface Mount; ComponentLink1Description: Manufacturer URL; ComponentLink1URL: http://www.microchip.com/; ComponentLink2Description: Datasheet; ComponentLink2URL: http://ww1.microchip.com/downloads/en/DeviceDoc/21876a.pdf; ComponentLink3Description: Package Specification; ComponentLink3URL: http://www.microchip.com/stellent/groups/techpub_sg/documents/packagingspec/en012702.pdf
footprint MSOP-MS8_N (TSOP, 8-Leads, Body 3x3mm, Pitch 0.65mm, IPC Medium Density)
footprint MSOP-MS8_L (TSOP, 8-Leads, Body 3x3mm, Pitch 0.65mm, IPC High Density)
footprint MSOP-MS8_M (TSOP, 8-Leads, Body 3x3mm, Pitch 0.65mm, IPC Low Density)
pins: 1 EXT (out), 2 GND (power), 3 CS (in), 4 FB (in), 5 ~{SHDN} (in), 6 NC, 7 NC, 8 VIN (power)

## MCP1651R-E/MS
designator U?
750 kHz Boost Controller, Low Battery Detection, 2.0V, 8-Pin MSOP, Extended Temperature; Manufacturer: Microchip; PartNumber: MCP1651R-E/MS; DatasheetVersion: revA, Mar-2004; PackageVersion: revBB, Aug-2009; PackageReference: MSOP-MS8; PackageDescription: 8-Lead Plastic Micro Small Outline Package (MS) [MSOP]; Supplier 1: Digi-Key; Supplier Part Number 1: MCP1651R-E/MS-ND; Mounting Technology: Surface Mount; ComponentLink1Description: Manufacturer URL; ComponentLink1URL: http://www.microchip.com/; ComponentLink2Description: Datasheet; ComponentLink2URL: http://ww1.microchip.com/downloads/en/DeviceDoc/21876a.pdf; ComponentLink3Description: Package Specification; ComponentLink3URL: http://www.microchip.com/stellent/groups/techpub_sg/documents/packagingspec/en012702.pdf
footprint MSOP-MS8_N (TSOP, 8-Leads, Body 3x3mm, Pitch 0.65mm, IPC Medium Density)
footprint MSOP-MS8_L (TSOP, 8-Leads, Body 3x3mm, Pitch 0.65mm, IPC High Density)
footprint MSOP-MS8_M (TSOP, 8-Leads, Body 3x3mm, Pitch 0.65mm, IPC Low Density)
pins: 1 EXT (out), 2 GND (power), 3 CS (in), 4 FB (in), 5 ~{SHDN} (in), 6 LBI (in), 7 ~{LBO} (oc), 8 VIN (power)

## MCP1651RT-E/MS
designator U?
750 kHz Boost Controller, Low Battery Detection, 2.0V, 8-Pin MSOP, Extended Temperature, Tape and Reel; Manufacturer: Microchip; PartNumber: MCP1651RT-E/MS; DatasheetVersion: revA, Mar-2004; PackageVersion: revBB, Aug-2009; PackageReference: MSOP-MS8; PackageDescription: 8-Lead Plastic Micro Small Outline Package (MS) [MSOP]; Supplier 1: Digi-Key; Supplier Part Number 1: MCP1651RT-E/MS-ND; Mounting Technology: Surface Mount; ComponentLink1Description: Manufacturer URL; ComponentLink1URL: http://www.microchip.com/; ComponentLink2Description: Datasheet; ComponentLink2URL: http://ww1.microchip.com/downloads/en/DeviceDoc/21876a.pdf; ComponentLink3Description: Package Specification; ComponentLink3URL: http://www.microchip.com/stellent/groups/techpub_sg/documents/packagingspec/en012702.pdf
footprint MSOP-MS8_N (TSOP, 8-Leads, Body 3x3mm, Pitch 0.65mm, IPC Medium Density)
footprint MSOP-MS8_L (TSOP, 8-Leads, Body 3x3mm, Pitch 0.65mm, IPC High Density)
footprint MSOP-MS8_M (TSOP, 8-Leads, Body 3x3mm, Pitch 0.65mm, IPC Low Density)
pins: 1 EXT (out), 2 GND (power), 3 CS (in), 4 FB (in), 5 ~{SHDN} (in), 6 LBI (in), 7 ~{LBO} (oc), 8 VIN (power)

## MCP1651S-E/MS
designator U?
750 kHz Boost Controller, Low Battery Detection, 2.55V, 8-Pin MSOP, Extended Temperature; Manufacturer: Microchip; PartNumber: MCP1651S-E/MS; DatasheetVersion: revA, Mar-2004; PackageVersion: revBB, Aug-2009; PackageReference: MSOP-MS8; PackageDescription: 8-Lead Plastic Micro Small Outline Package (MS) [MSOP]; Supplier 1: Digi-Key; Supplier Part Number 1: MCP1651S-E/MS-ND; Mounting Technology: Surface Mount; ComponentLink1Description: Manufacturer URL; ComponentLink1URL: http://www.microchip.com/; ComponentLink2Description: Datasheet; ComponentLink2URL: http://ww1.microchip.com/downloads/en/DeviceDoc/21876a.pdf; ComponentLink3Description: Package Specification; ComponentLink3URL: http://www.microchip.com/stellent/groups/techpub_sg/documents/packagingspec/en012702.pdf
footprint MSOP-MS8_N (TSOP, 8-Leads, Body 3x3mm, Pitch 0.65mm, IPC Medium Density)
footprint MSOP-MS8_L (TSOP, 8-Leads, Body 3x3mm, Pitch 0.65mm, IPC High Density)
footprint MSOP-MS8_M (TSOP, 8-Leads, Body 3x3mm, Pitch 0.65mm, IPC Low Density)
pins: 1 EXT (out), 2 GND (power), 3 CS (in), 4 FB (in), 5 ~{SHDN} (in), 6 LBI (in), 7 ~{LBO} (oc), 8 VIN (power)

## MCP1651ST-E/MS
designator U?
750 kHz Boost Controller, Low Battery Detection, 2.55V, 8-Pin MSOP, Extended Temperature, Tape and Reel; Manufacturer: Microchip; PartNumber: MCP1651ST-E/MS; DatasheetVersion: revA, Mar-2004; PackageVersion: revBB, Aug-2009; PackageReference: MSOP-MS8; PackageDescription: 8-Lead Plastic Micro Small Outline Package (MS) [MSOP]; Supplier 1: Digi-Key; Supplier Part Number 1: MCP1651ST-E/MS-ND; Mounting Technology: Surface Mount; ComponentLink1Description: Manufacturer URL; ComponentLink1URL: http://www.microchip.com/; ComponentLink2Description: Datasheet; ComponentLink2URL: http://ww1.microchip.com/downloads/en/DeviceDoc/21876a.pdf; ComponentLink3Description: Package Specification; ComponentLink3URL: http://www.microchip.com/stellent/groups/techpub_sg/documents/packagingspec/en012702.pdf
footprint MSOP-MS8_N (TSOP, 8-Leads, Body 3x3mm, Pitch 0.65mm, IPC Medium Density)
footprint MSOP-MS8_L (TSOP, 8-Leads, Body 3x3mm, Pitch 0.65mm, IPC High Density)
footprint MSOP-MS8_M (TSOP, 8-Leads, Body 3x3mm, Pitch 0.65mm, IPC Low Density)
pins: 1 EXT (out), 2 GND (power), 3 CS (in), 4 FB (in), 5 ~{SHDN} (in), 6 LBI (in), 7 ~{LBO} (oc), 8 VIN (power)

## MCP1652R-E/MS
designator U?
750 kHz Boost Controller, Power Good Indication, 2.0V, 8-Pin MSOP, Extended Temperature; Manufacturer: Microchip; PartNumber: MCP1652R-E/MS; DatasheetVersion: revA, Mar-2004; PackageVersion: revBB, Aug-2009; PackageReference: MSOP-MS8; PackageDescription: 8-Lead Plastic Micro Small Outline Package (MS) [MSOP]; Supplier 1: Digi-Key; Supplier Part Number 1: MCP1652R-E/MS-ND; Mounting Technology: Surface Mount; ComponentLink1Description: Manufacturer URL; ComponentLink1URL: http://www.microchip.com/; ComponentLink2Description: Datasheet; ComponentLink2URL: http://ww1.microchip.com/downloads/en/DeviceDoc/21876a.pdf; ComponentLink3Description: Package Specification; ComponentLink3URL: http://www.microchip.com/stellent/groups/techpub_sg/documents/packagingspec/en012702.pdf
footprint MSOP-MS8_N (TSOP, 8-Leads, Body 3x3mm, Pitch 0.65mm, IPC Medium Density)
footprint MSOP-MS8_L (TSOP, 8-Leads, Body 3x3mm, Pitch 0.65mm, IPC High Density)
footprint MSOP-MS8_M (TSOP, 8-Leads, Body 3x3mm, Pitch 0.65mm, IPC Low Density)
pins: 1 EXT (out), 2 GND (power), 3 CS (in), 4 FB (in), 5 ~{SHDN} (in), 6 NC, 7 PG (oc), 8 VIN (power)

## MCP1652RT-E/MS
designator U?
750 kHz Boost Controller, Power Good Indication, 2.0V, 8-Pin MSOP, Extended Temperature, Tape and Reel; Manufacturer: Microchip; PartNumber: MCP1652RT-E/MS; DatasheetVersion: revA, Mar-2004; PackageVersion: revBB, Aug-2009; PackageReference: MSOP-MS8; PackageDescription: 8-Lead Plastic Micro Small Outline Package (MS) [MSOP]; Supplier 1: Digi-Key; Supplier Part Number 1: MCP1652RT-E/MS-ND; Mounting Technology: Surface Mount; ComponentLink1Description: Manufacturer URL; ComponentLink1URL: http://www.microchip.com/; ComponentLink2Description: Datasheet; ComponentLink2URL: http://ww1.microchip.com/downloads/en/DeviceDoc/21876a.pdf; ComponentLink3Description: Package Specification; ComponentLink3URL: http://www.microchip.com/stellent/groups/techpub_sg/documents/packagingspec/en012702.pdf
footprint MSOP-MS8_N (TSOP, 8-Leads, Body 3x3mm, Pitch 0.65mm, IPC Medium Density)
footprint MSOP-MS8_L (TSOP, 8-Leads, Body 3x3mm, Pitch 0.65mm, IPC High Density)
footprint MSOP-MS8_M (TSOP, 8-Leads, Body 3x3mm, Pitch 0.65mm, IPC Low Density)
pins: 1 EXT (out), 2 GND (power), 3 CS (in), 4 FB (in), 5 ~{SHDN} (in), 6 NC, 7 PG (oc), 8 VIN (power)

## MCP1652S-E/MS
designator U?
750 kHz Boost Controller, Power Good Indication, 2.55V, 8-Pin MSOP, Extended Temperature; Manufacturer: Microchip; PartNumber: MCP1652S-E/MS; DatasheetVersion: revA, Mar-2004; PackageVersion: revBB, Aug-2009; PackageReference: MSOP-MS8; PackageDescription: 8-Lead Plastic Micro Small Outline Package (MS) [MSOP]; Supplier 1: Digi-Key; Supplier Part Number 1: MCP1652S-E/MS-ND; Mounting Technology: Surface Mount; ComponentLink1Description: Manufacturer URL; ComponentLink1URL: http://www.microchip.com/; ComponentLink2Description: Datasheet; ComponentLink2URL: http://ww1.microchip.com/downloads/en/DeviceDoc/21876a.pdf; ComponentLink3Description: Package Specification; ComponentLink3URL: http://www.microchip.com/stellent/groups/techpub_sg/documents/packagingspec/en012702.pdf
footprint MSOP-MS8_N (TSOP, 8-Leads, Body 3x3mm, Pitch 0.65mm, IPC Medium Density)
footprint MSOP-MS8_L (TSOP, 8-Leads, Body 3x3mm, Pitch 0.65mm, IPC High Density)
footprint MSOP-MS8_M (TSOP, 8-Leads, Body 3x3mm, Pitch 0.65mm, IPC Low Density)
pins: 1 EXT (out), 2 GND (power), 3 CS (in), 4 FB (in), 5 ~{SHDN} (in), 6 NC, 7 PG (oc), 8 VIN (power)

## MCP1652ST-E/MS
designator U?
750 kHz Boost Controller, Power Good Indication, 2.55V, 8-Pin MSOP, Extended Temperature, Tape and Reel; Manufacturer: Microchip; PartNumber: MCP1652ST-E/MS; DatasheetVersion: revA, Mar-2004; PackageVersion: revBB, Aug-2009; PackageReference: MSOP-MS8; PackageDescription: 8-Lead Plastic Micro Small Outline Package (MS) [MSOP]; Supplier 1: Digi-Key; Supplier Part Number 1: MCP1652ST-E/MS-ND; Mounting Technology: Surface Mount; ComponentLink1Description: Manufacturer URL; ComponentLink1URL: http://www.microchip.com/; ComponentLink2Description: Datasheet; ComponentLink2URL: http://ww1.microchip.com/downloads/en/DeviceDoc/21876a.pdf; ComponentLink3Description: Package Specification; ComponentLink3URL: http://www.microchip.com/stellent/groups/techpub_sg/documents/packagingspec/en012702.pdf
footprint MSOP-MS8_N (TSOP, 8-Leads, Body 3x3mm, Pitch 0.65mm, IPC Medium Density)
footprint MSOP-MS8_L (TSOP, 8-Leads, Body 3x3mm, Pitch 0.65mm, IPC High Density)
footprint MSOP-MS8_M (TSOP, 8-Leads, Body 3x3mm, Pitch 0.65mm, IPC Low Density)
pins: 1 EXT (out), 2 GND (power), 3 CS (in), 4 FB (in), 5 ~{SHDN} (in), 6 NC, 7 PG (oc), 8 VIN (power)

## MCP1653R-E/UN
designator U?
750 kHz Boost Controller, Low Battery Detection and PG, 2.0V, 10-Pin MSOP, Extended Temperature; Manufacturer: Microchip; PartNumber: MCP1653R-E/UN; DatasheetVersion: revA, Mar-2004; PackageVersion: revBB, Aug-2009; PackageReference: MSOP-UN10; PackageDescription: 10-Lead Plastic Micro Small Outline Package (UN) [MSOP]; Supplier 1: Digi-Key; Supplier Part Number 1: MCP1653R-E/UN-ND; Mounting Technology: Surface Mount; ComponentLink1Description: Manufacturer URL; ComponentLink1URL: http://www.microchip.com/; ComponentLink2Description: Datasheet; ComponentLink2URL: http://ww1.microchip.com/downloads/en/DeviceDoc/21876a.pdf; ComponentLink3Description: Package Specification; ComponentLink3URL: http://www.microchip.com/stellent/groups/techpub_sg/documents/packagingspec/en012702.pdf
footprint MSOP-UN10_N (TSSOP, 10-Leads, Body 3x3mm, Pitch 0.5mm, IPC Medium Density)
footprint MSOP-UN10_L (TSSOP, 10-Leads, Body 3x3mm, Pitch 0.5mm, IPC High Density)
footprint MSOP-UN10_M (TSSOP, 10-Leads, Body 3x3mm, Pitch 0.5mm, IPC Low Density)
pins: 1 EXT (out), 2 GND (power), 3 CS (in), 4 FB (in), 5 NC, 6 ~{SHDN} (in), 7 LBI (in), 8 ~{LBO} (oc), 9 PG (oc), 10 VIN (power)

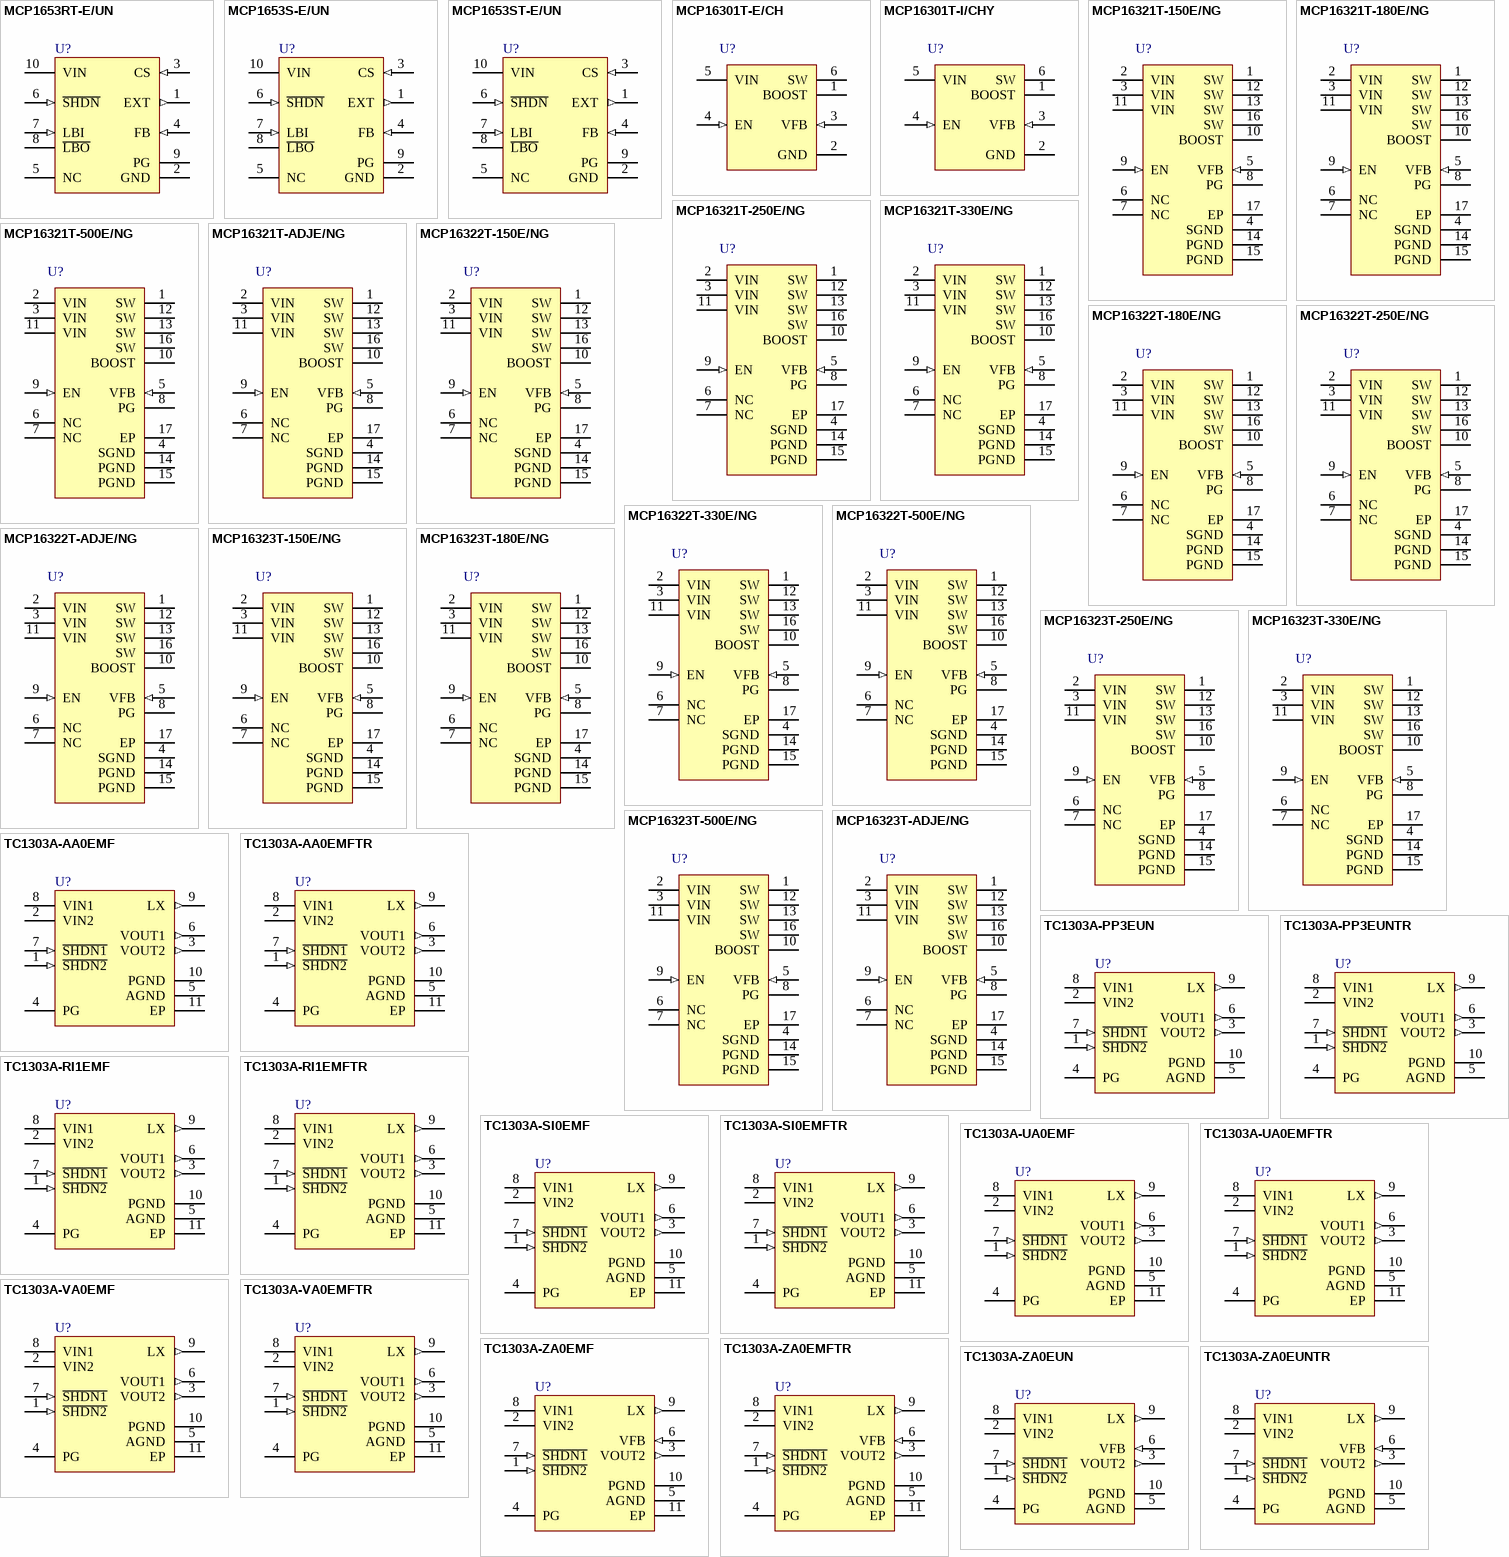
[diagram p2: symbols MCP1653RT-E/UN to TC1303A-ZA0EUNTR]

## MCP1653RT-E/UN
designator U?
750 kHz Boost Controller, Low Battery Detection and PG, 2.0V, 10-Pin MSOP, Extended Temperature, Tape and Reel; Manufacturer: Microchip; PartNumber: MCP1653RT-E/UN; DatasheetVersion: revA, Mar-2004; PackageVersion: revBB, Aug-2009; PackageReference: MSOP-UN10; PackageDescription: 10-Lead Plastic Micro Small Outline Package (UN) [MSOP]; Supplier 1: Digi-Key; Supplier Part Number 1: MCP1653RT-E/UN-ND; Mounting Technology: Surface Mount; ComponentLink1Description: Manufacturer URL; ComponentLink1URL: http://www.microchip.com/; ComponentLink2Description: Datasheet; ComponentLink2URL: http://ww1.microchip.com/downloads/en/DeviceDoc/21876a.pdf; ComponentLink3Description: Package Specification; ComponentLink3URL: http://www.microchip.com/stellent/groups/techpub_sg/documents/packagingspec/en012702.pdf
footprint MSOP-UN10_N (TSSOP, 10-Leads, Body 3x3mm, Pitch 0.5mm, IPC Medium Density)
footprint MSOP-UN10_L (TSSOP, 10-Leads, Body 3x3mm, Pitch 0.5mm, IPC High Density)
footprint MSOP-UN10_M (TSSOP, 10-Leads, Body 3x3mm, Pitch 0.5mm, IPC Low Density)
pins: 1 EXT (out), 2 GND (power), 3 CS (in), 4 FB (in), 5 NC, 6 ~{SHDN} (in), 7 LBI (in), 8 ~{LBO} (oc), 9 PG (oc), 10 VIN (power)

## MCP1653S-E/UN
designator U?
750 kHz Boost Controller, Low Battery Detection and PG, 2.55V, 10-Pin MSOP, Extended Temperature; Manufacturer: Microchip; PartNumber: MCP1653S-E/UN; DatasheetVersion: revA, Mar-2004; PackageVersion: revBB, Aug-2009; PackageReference: MSOP-UN10; PackageDescription: 10-Lead Plastic Micro Small Outline Package (UN) [MSOP]; Supplier 1: Digi-Key; Supplier Part Number 1: MCP1653S-E/UN-ND; Mounting Technology: Surface Mount; ComponentLink1Description: Manufacturer URL; ComponentLink1URL: http://www.microchip.com/; ComponentLink2Description: Datasheet; ComponentLink2URL: http://ww1.microchip.com/downloads/en/DeviceDoc/21876a.pdf; ComponentLink3Description: Package Specification; ComponentLink3URL: http://www.microchip.com/stellent/groups/techpub_sg/documents/packagingspec/en012702.pdf
footprint MSOP-UN10_N (TSSOP, 10-Leads, Body 3x3mm, Pitch 0.5mm, IPC Medium Density)
footprint MSOP-UN10_L (TSSOP, 10-Leads, Body 3x3mm, Pitch 0.5mm, IPC High Density)
footprint MSOP-UN10_M (TSSOP, 10-Leads, Body 3x3mm, Pitch 0.5mm, IPC Low Density)
pins: 1 EXT (out), 2 GND (power), 3 CS (in), 4 FB (in), 5 NC, 6 ~{SHDN} (in), 7 LBI (in), 8 ~{LBO} (oc), 9 PG (oc), 10 VIN (power)